# Altium footprint library TC33X-2-503E.PcbLib: 1 footprints
Each footprint in its own frame and in the unit in brackets; x right, y up, seen from the top. Pads: shape width x height; smd on the part's side, far side on the other; paste and mask are expansions set on the pad; w line width, h text height; cw(c..) or ccw(c..) is an arc to the next point about the centre after c.
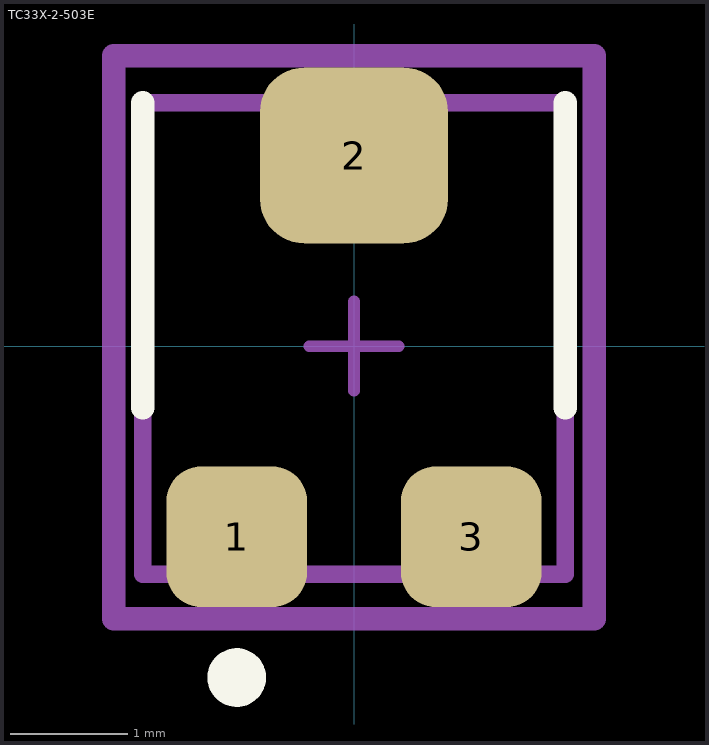
[diagram p0: the footprint, top view; thin cyan lines are the x and y axes]

## TC33X-2-503E [mm]
pads (3):
  rrect50% 1.2x1.2 smd paste+0 mask+0: 1(-1,-1.625) 3(1,-1.625)
  rrect50% 1.6x1.5 smd paste+0 mask+0: 2(0,1.625)
Top Overlay:
  circle w0.25: c-1,-2.825 r0.125
  lines w0.2: -1.8,-0.525 -1.8,2.075 ; 1.8,-0.525 1.8,2.075
Top Assembly:
  lines w0.15: -1.8,-1.944 1.8,-1.944 1.8,2.075 -1.8,2.075 -1.8,-1.944
  text "'.Designator'" at -1.415,-0.166 h0.5
Top Courtyard:
  lines w0.1: -0.381,0 0.381,0 ; 0,-0.381 0,0.381
  lines w0.2: -2.05,-2.325 2.05,-2.325 2.05,2.475 -2.05,2.475 -2.05,-2.325
3D body "TC-33X-2.stp": height 1.13, standoff -0.02, extent -1.822,-1.933 1.778,2.029